# EAGLE library part SSW-108-21-L-S (library C3-Connector)
SAMTEC 8x1 THROUGH-HOLE 100 mil .025" SQ POST SOCKET 8 Pins, 1 Row, Solder Tail, Low Force, 10µ" Gold on Contact SSW Series Catalog Page (EN) <http://www.samtec.com/documents/webfiles/pdf/SSW_TH.PDF>
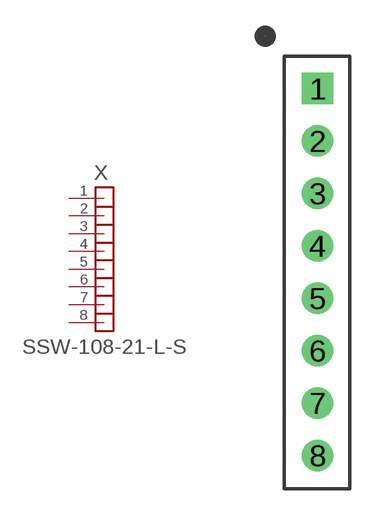
[diagram p12: symbol with the pads of SAMTEC_SSW-108-21-L-S; footprint SAMTEC_SSW-108-21-L-S]

Designator prefix X

## SSW-108-21-L-S  [SAMTEC_SSW-108-21-L-S]
1  1  pas
2  2  pas
3  3  pas
4  4  pas
5  5  pas
6  6  pas
7  7  pas
8  8  pas

## Footprint SAMTEC_SSW-108-21-L-S (pad centres in mm)
SAMTEC 8x1 THROUGH-HOLE .025" SQ POST SOCKET 8 Pins, 1 Row, Solder Tail, Low Force, 10µ" Gold on Contact SSW Series Catalog Page (EN) <http://www.samtec.com/documents/webfiles/pdf/SSW_TH.PDF> SSW Assembly Drawing <http://www.samtec.com/documents/webfiles/cpdf/SSW-1XX-XX-XXX-X-XX-XXX-XX-MKT.pdf>
drill 1.016 square: 1 0,8.89
drill 1.016: 2 0,6.35; 3 0,3.81; 4 0,1.27; 5 0,-1.27; 6 0,-3.81; 7 0,-6.35; 8 0,-8.89